# EAGLE library part PH_10POS_DEV (library blizzard_common_1)
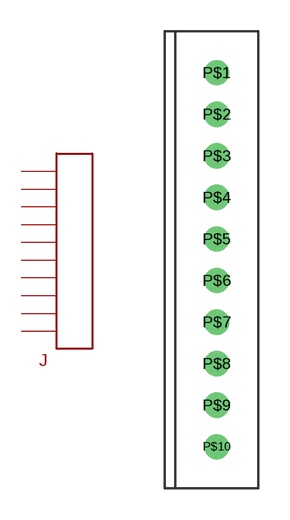
[diagram p3: symbol with the pads of PH_10POS_PKG; footprint PH_10POS_PKG]

Designator prefix J

## PH_10POS_DEV  [PH_10POS_PKG]
P$1  P$1
P$2  P$2
P$3  P$3
P$4  P$4
P$5  P$5
P$6  P$6
P$7  P$7
P$8  P$8
P$9  P$9
P$10  P$10

## Footprint PH_10POS_PKG (pad centres in mm)
drill 0.71: P$1 0,10; P$2 0,8; P$3 0,6; P$4 0,4; P$5 0,2; P$6 0,0; P$7 0,-2; P$8 0,-4; P$9 0,-6; P$10 0,-8